# Altium footprint library WS2812.PcbLib: 2 footprints
Each footprint in its own frame and in the unit in brackets; x right, y up, seen from the top. Pads: shape width x height; smd on the part's side, far side on the other; paste and mask are expansions set on the pad; w line width, h text height; cw(c..) or ccw(c..) is an arc to the next point about the centre after c.
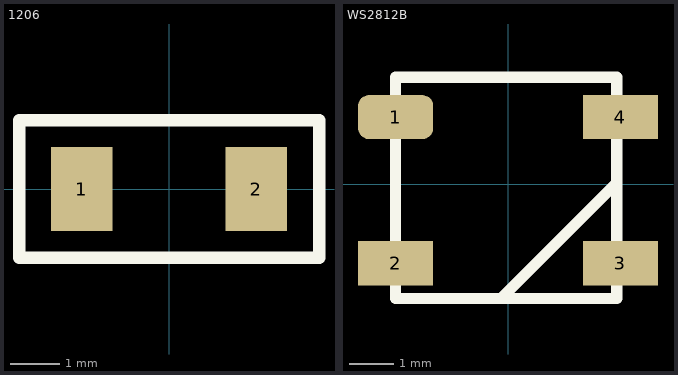
[diagram p0: the footprints below, top view; thin cyan lines are the x and y axes]

## 1206 [mm]
pads (2):
  rect 1.25x1.7 smd: 1(-1.775,0) 2(1.775,0)
Top Overlay:
  lines w0.254: -3.048,-1.397 3.048,-1.397 3.048,1.397 -3.048,1.397 -3.048,-0.28 -3.048,-1.397

## WS2812B [mm]
pads (4):
  rrect50% 1.7x1 smd: 1(-2.54,1.524)
  rect 1.7x1 smd: 2(-2.54,-1.778) 3(2.54,-1.778) 4(2.54,1.524)
Top Overlay:
  lines w0.254: -0.098,-2.518 2.44,0.019 ; -2.54,-2.576 -2.54,2.424 2.46,2.424 2.46,-2.576 -2.54,-2.576